# Altium schematic symbol library Semiconductors.SchLib: 9 symbols
Pins are listed as number, name and electrical type; pins without a type are passive.

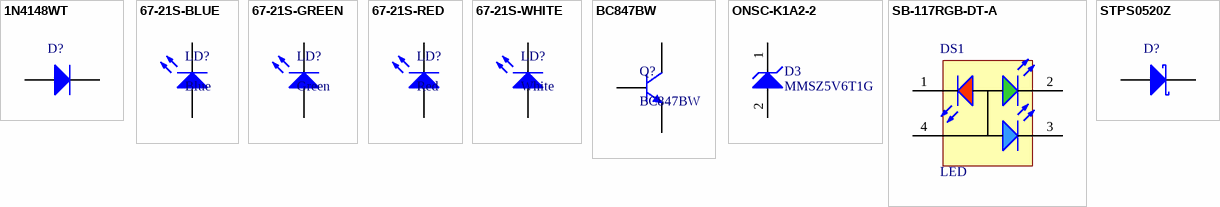
[diagram p0: symbols 1N4148WT to STPS0520Z]

## 1N4148WT
designator D?  (value not drawn)
Surface Mount Fast Switching Diode, -65 to 150 degC, 2-Pin SOD523, RoHS, Tape and Reel; Supplier 1: Digi-Key; Supplier Part Number 1: 1N4148WTDIDKR-ND
footprint SOD-523 (SMD, 2-Leads, Body 1.2x0.8mm, Height 0.7mm)
pins: 1 K, 2 A

## 67-21S-BLUE
designator LD?, comment Blue
Everlight 67-21S/NB3C-D6575B8L52936Z15/2T
footprint 67-21S LED (LED 2835 SMD)
pins: 1 K, 2 A

## 67-21S-GREEN
designator LD?, comment Green
Everlight 67-21S/NG3C-D2035N3PB2936Z15/2T
footprint 67-21S LED (LED 2835 SMD)
pins: 1 K, 2 A

## 67-21S-RED
designator LD?, comment Red
Everlight 67-21S/NR3C-D1530L6M41829Z15/2T
footprint 67-21S LED (LED 2835 SMD)
pins: 1 K, 2 A

## 67-21S-WHITE
designator LD?, comment White
Everlight 67-21S/KK5C-3H6565R4R72834Z15/2T/EU
footprint 67-21S LED (LED 2835 SMD)
pins: 1 A, 2 K

## BC847BW
designator Q?
Bipolar (BJT) Single Transistor, General Purpose, NPN, 45 V, 100 MHz, 200 mW, 100 mA, 200 hFE; Supplier 1: Mouser; Supplier Part Number 1: 621-BC847BW-7-F
footprint SOT323
pins: 1 B, 2 E, 3 C

## ONSC-K1A2-2
designator D3, comment MMSZ5V6T1G
Zener Voltage Regulator, 500 mW, 2-Pin SOD-123, Pb-Free, Tape and Reel; Manufacturer: On Semiconductor; P Max (W): 0.5; PackageVersion: Rev. G, 10/2009; ComponentLink2Description: Datasheet; ComponentLink2URL: http://www.onsemi.com/pub_link/Collateral/MMSZ2V4T1-D.PDF; ComponentLink3Description: Package Specification; DatasheetVersion: Rev. 11; PackageDescription: 2-Pin SOD, Body 1.6 x 2.69 mm; ComponentLink1Description: Manufacturer URL; ComponentLink3URL: http://www.onsemi.com/pub_link/Collateral/425-04.PDF; ComponentLink1URL: http://www.onsemi.com/; Mounting Technology: Surface Mount; PartNumber: MMSZ5V6T1G; PackageReference: SOD-123-2-425-04; RoHS: Pb-Free; Packing: Tape and Reel
footprint ONSC-SOD-123-2-425-04_V (SOD, 2-Leads, Body 2.69x1.6mm)
pins: 1 K, 2 A

## SB-117RGB-DT-A
designator DS1, comment LED
Right Angle SMD LED RGB
footprint SB-117RGB-DT-A (SMD, 4-Leads, Body 3x1.5mm, Height 1mm)
pins: 1 RED, 2 Green, 3 Blue, 4 +

## STPS0520Z
designator D?  (value not drawn)
Schottky Rectifier, 20 V, 500 mA, Single, SOD-123, 2 Pins, 320 mV; Supplier 1: Mouser; Supplier Part Number 1: 511-STPS0520Z
footprint SOD-123
pins: 1 A, 2 K